# EAGLE library part 61007221121 (library Wuerth_Elektronik_eiCan_Pin_&_Socked_Headers_v1.3)
WR-PHD 2.54mm Dual SMT Pin Header, 72 Pins
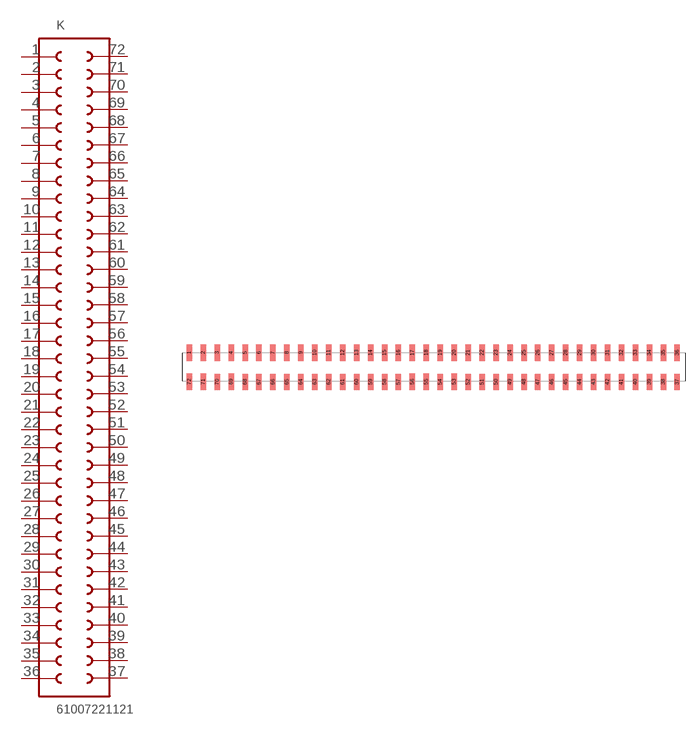
[diagram p107: symbol with the pads of 61007221121; footprint 61007221121]

Designator prefix K

## 61007221121  [61007221121]
1  1  pas
2  2  pas
3  3  pas
4  4  pas
5  5  pas
6  6  pas
7  7  pas
8  8  pas
9  9  pas
10  10  pas
11  11  pas
12  12  pas
13  13  pas
14  14  pas
15  15  pas
16  16  pas
17  17  pas
18  18  pas
19  19  pas
20  20  pas
21  21  pas
22  22  pas
23  23  pas
24  24  pas
25  25  pas
26  26  pas
27  27  pas
28  28  pas
29  29  pas
30  30  pas
31  31  pas
32  32  pas
33  33  pas
34  34  pas
35  35  pas
36  36  pas
37  37  pas
38  38  pas
39  39  pas
40  40  pas
41  41  pas
42  42  pas
43  43  pas
44  44  pas
45  45  pas
46  46  pas
47  47  pas
48  48  pas
49  49  pas
50  50  pas
51  51  pas
52  52  pas
53  53  pas
54  54  pas
55  55  pas
56  56  pas
57  57  pas
58  58  pas
59  59  pas
60  60  pas
61  61  pas
62  62  pas
63  63  pas
64  64  pas
65  65  pas
66  66  pas
67  67  pas
68  68  pas
69  69  pas
70  70  pas
71  71  pas
72  72  pas

## Footprint 61007221121 (pad centres in mm)
WR-PHD 2.54mm Dual SMT Pin Header, 72 Pins
smd 1 x 3: 1 -44.45,2.54; 2 -41.91,2.54; 3 -39.37,2.54; 4 -36.83,2.54; 5 -34.29,2.54; 6 -31.75,2.54; 7 -29.21,2.54; 8 -26.67,2.54; 9 -24.13,2.54; 10 -21.59,2.54; 11 -19.05,2.54; 12 -16.51,2.54; 13 -13.97,2.54; 14 -11.43,2.54; 15 -8.89,2.54; 16 -6.35,2.54; 17 -3.81,2.54; 18 -1.27,2.54; 19 1.27,2.54; 20 3.81,2.54; 21 6.35,2.54; 22 8.89,2.54; 23 11.43,2.54; 24 13.97,2.54; 25 16.51,2.54; 26 19.05,2.54; 27 21.59,2.54; 28 24.13,2.54; 29 26.67,2.54; 30 29.21,2.54; 31 31.75,2.54; 32 34.29,2.54; 33 36.83,2.54; 34 39.37,2.54; 35 41.91,2.54; 36 44.45,2.54; 37 44.45,-2.79; 38 41.91,-2.79; 39 39.37,-2.79; 40 36.83,-2.79; 41 34.29,-2.79; 42 31.75,-2.79; 43 29.21,-2.79; 44 26.67,-2.79; 45 24.13,-2.79; 46 21.59,-2.79; 47 19.05,-2.79; 48 16.51,-2.79; 49 13.97,-2.79; 50 11.43,-2.79; 51 8.89,-2.79; 52 6.35,-2.79; 53 3.81,-2.76; 54 1.27,-2.79; 55 -1.27,-2.76; 56 -3.81,-2.76; 57 -6.35,-2.79; 58 -8.89,-2.79; 59 -11.43,-2.79; 60 -13.97,-2.79; 61 -16.51,-2.79; 62 -19.05,-2.79; 63 -21.59,-2.79; 64 -24.13,-2.79; 65 -26.67,-2.79; 66 -29.21,-2.79; 67 -31.75,-2.79; 68 -34.29,-2.79; 69 -36.83,-2.76; 70 -39.37,-2.79; 71 -41.91,-2.76; 72 -44.45,-2.76